# Altium footprint library Logic_RF_Footprints.PcbLib: 6 footprints
Each footprint in its own frame and in the unit in brackets; x right, y up, seen from the top. Pads: shape width x height; smd on the part's side, far side on the other; paste and mask are expansions set on the pad; w line width, h text height; cw(c..) or ccw(c..) is an arc to the next point about the centre after c.
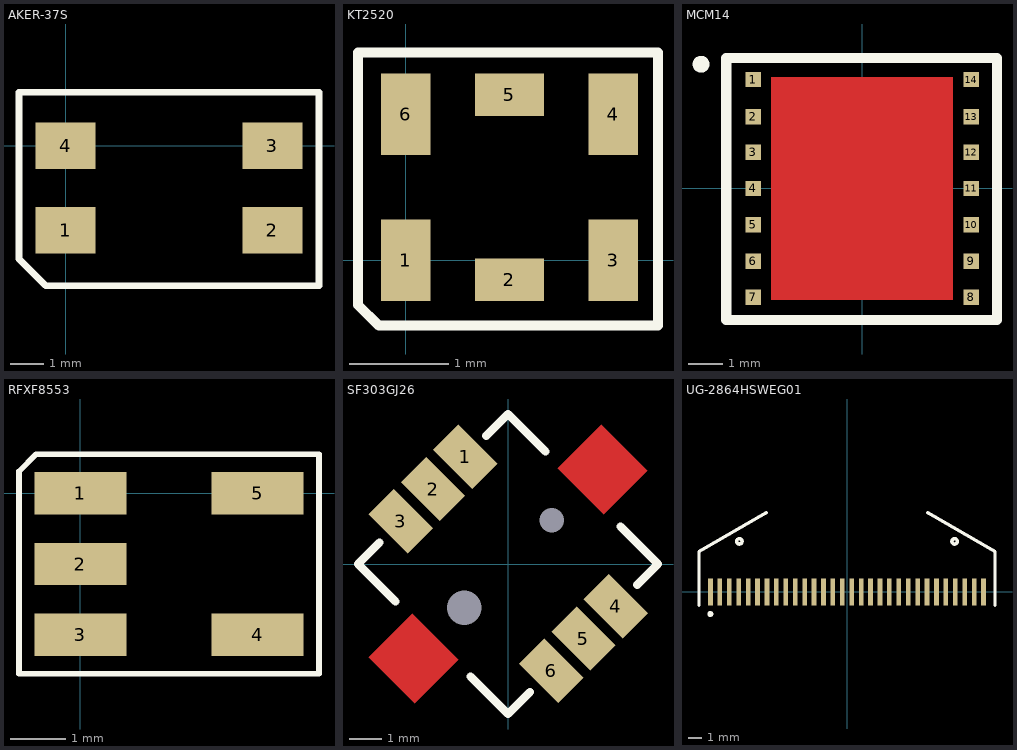
[diagram p0: the footprints below, top view; thin cyan lines are the x and y axes]

## AKER-37S [mm]
pads (4):
  rect 1.8x1.4 smd: 1(0,-2.54) 2(6.2,-2.54) 3(6.2,0) 4(0,0)
Top Overlay:
  lines w0.2: -1.4,-3.4 -1.4,1.6 7.6,1.6 7.6,0.5 7.6,-3 7.6,-4.2 -0.6,-4.2 -1.4,-3.4
3D body: height 1.1, standoff 0, extent -0.5,-3.9 6.7,1.3

## KT2520 [mm]
height 0.8
pads (6):
  rect 0.5x0.825 smd: 1(0,0) 3(2.1,0) 4(2.1,1.475) 6(0,1.475)
  rect 0.7x0.43 smd: 2(1.05,-0.198) 5(1.05,1.673)
Top Overlay:
  lines w0.1: -0.48,-0.45 -0.27,-0.66 2.55,-0.66 2.55,2.1 -0.48,2.1 -0.48,-0.45

## MCM14 [mm]
pads (14):
  rect 0.45x0.45 smd mask+0.15: 1(-3.175,3.175) 2(-3.175,2.095) 3(-3.175,1.055) 4(-3.175,0) 5(-3.175,-1.055) 6(-3.175,-2.115) 7(-3.175,-3.175) 8(3.175,-3.175) 9(3.175,-2.115) 10(3.175,-1.055) 11(3.175,0) 12(3.175,1.055) 13(3.175,2.095) 14(3.175,3.175)
Top Layer:
  rectangle: -2.65,-3.25 2.65,3.25
Top Overlay:
  circle w0.254: c-4.692,3.62 r0.118
  lines w0.3: -3.96,-3.83 3.93,-3.83 3.93,3.8 -3.96,3.8 -3.96,-3.83
Top Paste:
  rectangle: -2.569,1.85 -1.101,3.176
  rectangle: -0.734,1.85 0.734,3.176
  rectangle: 1.101,1.85 2.569,3.176
  rectangle: -2.569,0.173 -1.101,1.5
  rectangle: -0.734,0.173 0.734,1.5
  rectangle: 1.101,0.173 2.569,1.5
  rectangle: -2.569,-1.5 -1.101,-0.173
  rectangle: -0.734,-1.5 0.734,-0.173
  rectangle: 1.101,-1.5 2.569,-0.173
  rectangle: -2.569,-3.176 -1.101,-1.85
  rectangle: -0.734,-3.176 0.734,-1.85
  rectangle: 1.101,-3.176 2.569,-1.85
Top Solder:
  rectangle: -2.725,-3.325 2.725,3.325

## RFXF8553 [mm]
pads (5):
  rect 1.65x0.76 smd: 1(0,0) 2(0,-1.27) 3(0,-2.54) 4(3.18,-2.54) 5(3.18,0)
Top Overlay:
  lines w0.1: -1.1,-3.24 4.28,-3.24 4.28,0.7 -0.79,0.7 -1.1,0.39 -1.1,-3.24
3D body: height 3.18, standoff 0, extent 0.45,-2.86 2.73,0.32

## SF303GJ26 [mm]
pads (8):
  rect 1.7x1.1 smd rot 135: 1(-1.308,3.288) 2(-2.298,2.298) 3(-3.288,1.308) 4(3.302,-1.294) 5(2.312,-2.284) 6(1.322,-3.274)
  round 0 hole 0.75: H1(1.344,1.344)
  round 0 hole 1.05: H2(-1.344,-1.344)
Top Layer:
  region: 1.52,2.934 2.934,1.52 4.278,2.864 2.864,4.278
  region: -4.278,-2.864 -2.864,-4.278 -1.52,-2.934 -2.934,-1.52
Top Overlay:
  lines w0.254: -3.939,0.658 -4.596,0 -3.447,-1.149 ; -1.149,-3.447 0,-4.596 0.672,-3.924 ; -0.665,3.932 0,4.596 1.149,3.447 ; 3.447,1.149 4.596,0 3.96,-0.636
Top Solder:
  region: 1.379,2.934 2.934,1.379 4.419,2.864 2.864,4.419
  region: -4.419,-2.864 -2.864,-4.419 -1.379,-2.934 -2.934,-1.379

## UG-2864HSWEG01 [mm] "0.7mm pitch 30 pin FPC"
pads (30):
  rect 0.35x2 smd mask+0.1: 1(-10.15,0) 2(-9.45,0) 3(-8.75,0) 4(-8.05,0) 5(-7.35,0) 6(-6.65,0) 7(-5.95,0) 8(-5.25,0) 9(-4.55,0) 10(-3.85,0) 11(-3.15,0) 12(-2.45,0) 13(-1.75,0) 14(-1.05,0) 15(-0.35,0) 16(0.35,0) 17(1.05,0) 18(1.75,0) 19(2.45,0) 20(3.15,0) 21(3.85,0) 22(4.55,0) 23(5.25,0) 24(5.95,0) 25(6.65,0) 26(7.35,0) 27(8.05,0) 28(8.75,0) 29(9.45,0) 30(10.15,0)
Top Overlay:
  circle w0.254: c-8,3.75 r0.2
  circle w0.254: c8,3.75 r0.2
  circle w0.254: c-10.16,-1.65 r0.1
  lines w0.254: -11,-1 -11,3 -6,5.887 ; 6,5.887 11,3 11,-1